# Altium schematic symbol library LED_CHIP_6PIN.SchLib: 1 symbol
Pins are listed as number, name and electrical type; pins without a type are passive.

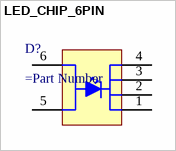
[diagram p0: symbol LED_CHIP_6PIN]

## LED_CHIP_6PIN
designator D?
=Description
pins: 1 (oe), 2 (oe), 3 (oe), 4 (oe), 5, 6